# Altium integrated library C0402C103K4RAC.IntLib: 1 symbol
Pins are listed as number, name and electrical type; pins without a type are passive.

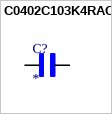
[diagram p0: symbol C0402C103K4RAC]

## C0402C103K4RAC
designator C?
10000 pF Â±10% 16V Ceramic Capacitor X7R 0402 (1005 Metric); MF: KEMET; MP: C0402C103K4RAC; SnapEDA_Link: https://www.snapeda.com/parts/C0402C103K4RAC/KEMET/view-part/?ref=snap; Package: 402-2 KEMET; Value: *; Check_prices: https://www.snapeda.com/parts/C0402C103K4RAC/KEMET/view-part/?ref=eda
footprint CAPC1005X55N
pins: 1, 2